# Altium footprint library Diodes.PcbLib: 8 footprints
Each footprint in its own frame and in the unit in brackets; x right, y up, seen from the top. Pads: shape width x height; smd on the part's side, far side on the other; paste and mask are expansions set on the pad; w line width, h text height; cw(c..) or ccw(c..) is an arc to the next point about the centre after c.
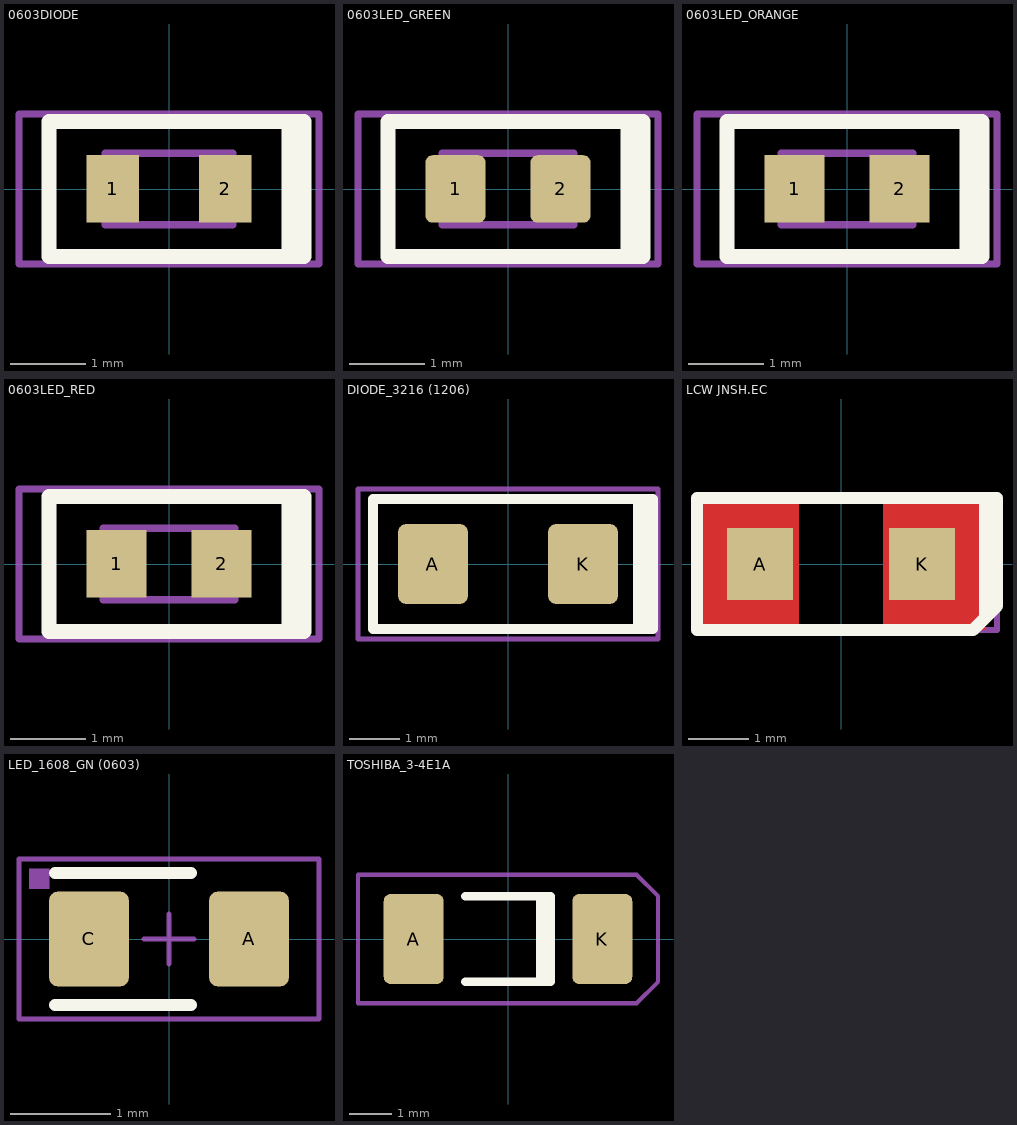
[diagram p0: the footprints below, top view; thin cyan lines are the x and y axes]

## 0603DIODE [mm] "Chip Diode Body 1.6x0.8mm, IPC High Density"
height 0.9
pads (2):
  rect 0.7x0.9 smd: 1(-0.75,0) 2(0.75,0)
Top Overlay:
  lines w0.2: 1.6,-0.9 1.8,-0.9 1.8,0.9 1.6,0.9 ; 1.6,-0.9 1.6,0.9 ; 1.6,-0.9 -1.6,-0.9 -1.6,0.9 1.6,0.9
13. 3D Model TOP:
  lines w0.1: -0.85,-0.475 -0.85,0.475 0.85,0.475 0.85,-0.475 -0.85,-0.475
15. Courtyard TOP:
  lines w0.1: -2,-1 2,-1 2,1 -2,1 -2,-1
  text ".designator" at -0.889,-0.33 h0.7
3D body: height 0.4, standoff 0, extent -0.8,-0.4 0.8,0.4

## 0603LED_GREEN [mm] "Chip Capacitor, Body 1.6x0.8mm, IPC High Density"
height 1.3
pads (2):
  rrect23% 0.8x0.9 smd: 1(-0.7,0) 2(0.7,0)
Top Overlay:
  lines w0.2: 1.6,-0.9 -1.6,-0.9 -1.6,0.9 1.6,0.9 ; 1.6,-0.9 1.6,0.9 ; 1.6,-0.9 1.8,-0.9 1.8,0.9 1.6,0.9
13. 3D Model TOP:
  lines w0.1: -0.875,-0.475 0.875,-0.475 0.875,0.475 -0.875,0.475 -0.875,-0.475
15. Courtyard TOP:
  lines w0.1: -2,-1 -2,1 2,1 2,-1 -2,-1
  text ".designator" at -0.889,-0.33 h0.7
3D body: height 0.6, standoff 0, extent -0.81,-0.4 0.81,0.4

## 0603LED_ORANGE [mm] "Chip Capacitor, Body 1.6x0.8mm, IPC High Density"
height 1.3
pads (2):
  rect 0.8x0.9 smd: 1(-0.7,0) 2(0.7,0)
Top Overlay:
  lines w0.2: 1.6,-0.9 -1.6,-0.9 -1.6,0.9 1.6,0.9 ; 1.6,-0.9 1.6,0.9 ; 1.6,-0.9 1.8,-0.9 1.8,0.9 1.6,0.9
13. 3D Model TOP:
  lines w0.1: -0.875,-0.475 0.875,-0.475 0.875,0.475 -0.875,0.475 -0.875,-0.475
15. Courtyard TOP:
  lines w0.1: -2,-1 -2,1 2,1 2,-1 -2,-1
  text ".designator" at -0.889,-0.33 h0.7
3D body: height 0.6, standoff 0, extent -0.81,-0.4 0.81,0.4

## 0603LED_RED [mm] "Chip Capacitor, Body 1.6x0.8mm, IPC High Density"
height 1.3
pads (2):
  rect 0.8x0.9 smd: 1(-0.7,0) 2(0.7,0)
Top Overlay:
  lines w0.2: 1.6,-0.9 1.8,-0.9 1.8,0.9 1.6,0.9 ; 1.6,-0.9 1.6,0.9 ; 1.6,-0.9 -1.6,-0.9 -1.6,0.9 1.6,0.9
13. 3D Model TOP:
  lines w0.1: -0.875,-0.475 -0.875,0.475 0.875,0.475 0.875,-0.475 -0.875,-0.475
15. Courtyard TOP:
  lines w0.1: -2,-1 2,-1 2,1 -2,1 -2,-1
  text ".designator" at -0.889,-0.33 h0.7
3D body: height 0.6, standoff 0, extent -0.81,-0.4 0.81,0.4

## DIODE_3216 (1206) [mm] "Metric (Imperial)"
height 1.6
pads (2):
  rrect23% 1.4x1.6 smd: A(-1.5,0) K(1.5,0)
Top Overlay:
  lines w0.2: 2.75,1.3 2.7,1.3 ; 2.7,1.3 2.7,-1.3 -2.7,-1.3 -2.7,1.3 2.7,1.3 ; 2.6,-1.3 2.6,1.3 2.9,1.3 2.9,-1.3 2.6,-1.3
15. Courtyard TOP:
  lines w0.1: -3,-1.5 -3,1.5 3,1.5 3,-1.5 -3,-1.5
  text ".designator" at -1.27,-0.508 h1
  text ">" at 2.4,-0.5 h1
3D body: height 0.63, standoff 0.01, extent -1.61,-0.81 1.61,0.81

## LCW JNSH.EC [mm]
pads (2):
  rect 1.1x1.2 smd: A(-1.35,0) K(1.35,0)
Top Layer:
  region: 2.4,1.1 0.7,1.1 0.7,-1.1 2.4,-1.1
  rectangle: -2.4,-1.1 -0.7,1.1
Top Overlay:
  lines w0.2: 2.4,-0.9 2.4,1 ; -2.4,-1.1 2.2,-1.1 2.6,-0.7 2.6,1.1 -2.4,1.1 -2.4,-1.1
Top Solder:
  region: 2,-0.7 0.7,-0.7 0.7,0.7 2,0.7
  region: -2,0.7 -0.7,0.7 -0.7,-0.7 -2,-0.7
15. Courtyard TOP:
  lines w0.1: 1.5,-1.1 2.6,0 1.5,1.1 ; -2.4,-1.1 2.6,-1.1 2.6,1.1 -2.4,1.1 -2.4,-1.1
  text ".designator" at -1.25,-0.5 h1
3D body: height 1.3, standoff 1, extent -1.25,-0.5 1.25,0.5
3D body: height 1, standoff 0, extent -1.5,-0.75 1.5,0.75

## LED_1608_GN (0603) [mm] "Metric (Imperial)"
height 0.55
pads (2):
  rrect23% 0.8x0.95 smd: A(0.8,0) C(-0.8,0)
Top Overlay:
  lines w0.12: -1.14,-0.66 0.22,-0.66 ; -1.14,0.66 0.22,0.66
15. Courtyard TOP:
  lines w0.05: -0.25,0 0.25,0 ; 0,-0.25 0,0.25 ; -1.5,-0.8 1.5,-0.8 1.5,0.8 -1.5,0.8 -1.5,-0.8
18. Assembly TOP:
  region: -1.4,0.7 -1.2,0.7 -1.2,0.5 -1.4,0.5
  lines w0.05: -1.5,-0.8 1.5,-0.8 1.5,0.8 -1.5,0.8 -1.5,-0.8
  text ".designator" at -1.3,-0.35 h0.7
3D body: height 0.6, standoff 0, extent -0.81,-0.4 0.81,0.4

## TOSHIBA_3-4E1A [mm]
pads (2):
  rrect23% 1.4x2.1 smd: A(-2.2,0) K(2.2,0)
Top Overlay:
  lines w0.2: -1,-1 1,-1 1,1 ; -1,1 1,1 ; 0.5,1 1,1 ; 0.75,-1 0.75,1 ; 0.9,-1 0.9,1
15. Courtyard TOP:
  lines w0.1: -3.5,-1.5 -3.5,1.5 3,1.5 3.5,1 3.5,-1 3,-1.5 -3.5,-1.5
  text ".designator" at -1,-0.5 h1